# Altium integrated library TI_Logic_Gate.IntLib: 2017 symbols (part 13 of 56)
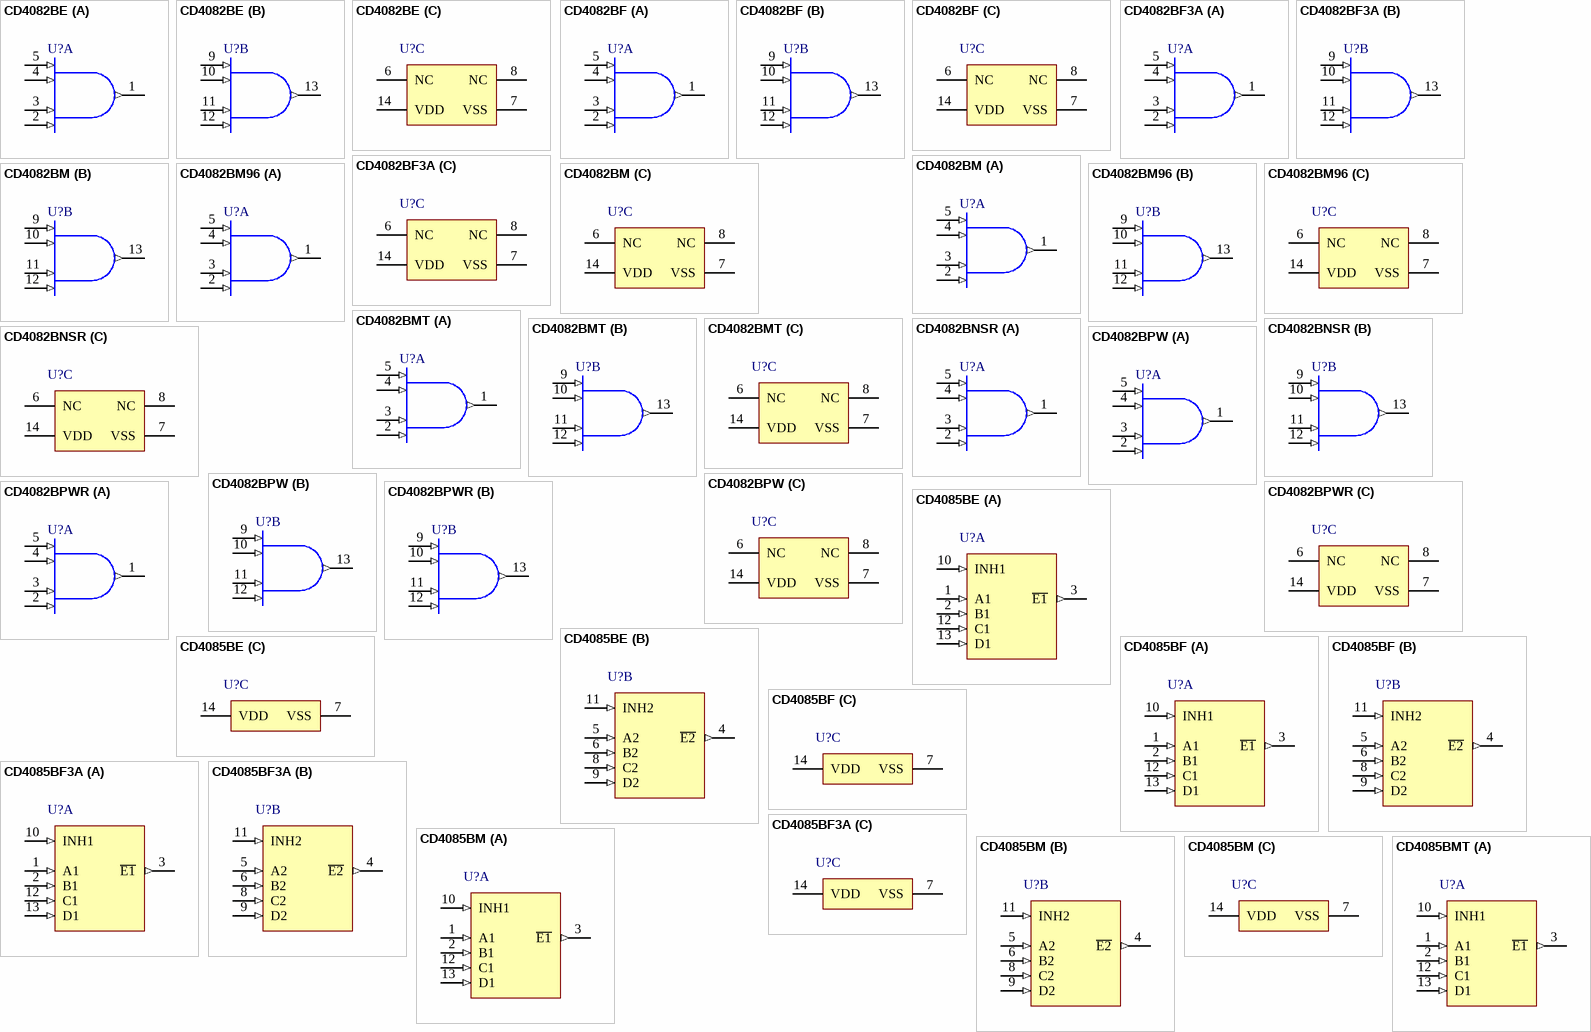
[diagram p237: symbols CD4082BE to CD4085BMT]

## CD4082BM
designator U?
CMOS Dual 4-Input AND Gate, D0014A, TUBE; Generic Part Number: CD4082B; Manufacturer: Texas Instruments; PartNumber: CD4082BM; VCC(Max)(V): 18; VCC(Min)(V): 3; ICC @ Nom Voltage(Max)(mA): 0.015; Bits(#): 2; F @ Nom Voltage(Max)(Mhz): 8; Rating: Catalog; Technology Family: CD4000; Voltage(Nom)(V): 10; Schmitt Trigger: No; Output Drive (IOL/IOH)(Max)(mA): -6.8/6.8; tpd @ Nom Voltage(Max)(ns): 120; DatasheetVersion: SCHS057C; PackageReference: D0014A; Supplier 1: Mouser; Supplier Part Number 1: 595-CD4082BM; Supplier 2: Digi-Key; Supplier Part Number 2: 296-32913-5-ND; Output Type: CMOS; Input Type: CMOS; Operating Temperature Range(C): -55 to 125; ComponentLink1Description: Manufacturer URL; ComponentLink1URL: http://www.ti.com/; ComponentLink2Description: Datasheet; ComponentLink2URL: http://www.ti.com/lit/ds/symlink/cd4082b.pdf
footprint D0014A_N (SOIC, 14-Leads, Body 8.75x4mm, Pitch 1.27mm, IPC Medium Density)
footprint D0014A_M (SOIC, 14-Leads, Body 8.75x4mm, Pitch 1.27mm, IPC Low Density)
footprint D0014A_L (SOIC, 14-Leads, Body 8.75x4mm, Pitch 1.27mm, IPC High Density)
part A pins: 1 J (out), 2 D (in), 3 C (in), 4 B (in), 5 A (in)
part B pins: 9 E (in), 10 F (in), 11 G (in), 12 H (in), 13 K (out)
part C pins: 6 NC, 7 VSS (power), 8 NC, 14 VDD (power)

## CD4082BM96
designator U?
CMOS Dual 4-Input AND Gate, D0014A, LARGE T&R; Generic Part Number: CD4082B; Manufacturer: Texas Instruments; PartNumber: CD4082BM96; VCC(Max)(V): 18; VCC(Min)(V): 3; ICC @ Nom Voltage(Max)(mA): 0.015; Bits(#): 2; F @ Nom Voltage(Max)(Mhz): 8; Rating: Catalog; Technology Family: CD4000; Voltage(Nom)(V): 10; Schmitt Trigger: No; Output Drive (IOL/IOH)(Max)(mA): -6.8/6.8; tpd @ Nom Voltage(Max)(ns): 120; DatasheetVersion: SCHS057C; PackageReference: D0014A; Supplier 1: Mouser; Supplier Part Number 1: 595-CD4082BM96; Supplier 2: Digi-Key; Supplier Part Number 2: 296-31523-2-ND; Supplier 3: Digi-Key; Supplier Part Number 3: 296-31523-1-ND; Supplier 4: Digi-Key; Supplier Part Number 4: 296-31523-6-ND; Output Type: CMOS; Input Type: CMOS; Operating Temperature Range(C): -55 to 125; ComponentLink1Description: Manufacturer URL; ComponentLink1URL: http://www.ti.com/; ComponentLink2Description: Datasheet; ComponentLink2URL: http://www.ti.com/lit/ds/symlink/cd4082b.pdf
footprint D0014A_N (SOIC, 14-Leads, Body 8.75x4mm, Pitch 1.27mm, IPC Medium Density)
footprint D0014A_M (SOIC, 14-Leads, Body 8.75x4mm, Pitch 1.27mm, IPC Low Density)
footprint D0014A_L (SOIC, 14-Leads, Body 8.75x4mm, Pitch 1.27mm, IPC High Density)
part A pins: 1 J (out), 2 D (in), 3 C (in), 4 B (in), 5 A (in)
part B pins: 9 E (in), 10 F (in), 11 G (in), 12 H (in), 13 K (out)
part C pins: 6 NC, 7 VSS (power), 8 NC, 14 VDD (power)

## CD4082BMT
designator U?
CMOS Dual 4-Input AND Gate, D0014A, SMALL T&R; Generic Part Number: CD4082B; Manufacturer: Texas Instruments; PartNumber: CD4082BMT; VCC(Max)(V): 18; VCC(Min)(V): 3; ICC @ Nom Voltage(Max)(mA): 0.015; Bits(#): 2; F @ Nom Voltage(Max)(Mhz): 8; Rating: Catalog; Technology Family: CD4000; Voltage(Nom)(V): 10; Schmitt Trigger: No; Output Drive (IOL/IOH)(Max)(mA): -6.8/6.8; tpd @ Nom Voltage(Max)(ns): 120; DatasheetVersion: SCHS057C; PackageReference: D0014A; Supplier 1: Mouser; Supplier Part Number 1: 595-CD4082BMT; Supplier 2: Digi-Key; Supplier Part Number 2: CD4082BMT-ND; Output Type: CMOS; Input Type: CMOS; Operating Temperature Range(C): -55 to 125; ComponentLink1Description: Manufacturer URL; ComponentLink1URL: http://www.ti.com/; ComponentLink2Description: Datasheet; ComponentLink2URL: http://www.ti.com/lit/ds/symlink/cd4082b.pdf
footprint D0014A_N (SOIC, 14-Leads, Body 8.75x4mm, Pitch 1.27mm, IPC Medium Density)
footprint D0014A_M (SOIC, 14-Leads, Body 8.75x4mm, Pitch 1.27mm, IPC Low Density)
footprint D0014A_L (SOIC, 14-Leads, Body 8.75x4mm, Pitch 1.27mm, IPC High Density)
part A pins: 1 J (out), 2 D (in), 3 C (in), 4 B (in), 5 A (in)
part B pins: 9 E (in), 10 F (in), 11 G (in), 12 H (in), 13 K (out)
part C pins: 6 NC, 7 VSS (power), 8 NC, 14 VDD (power)

## CD4082BNSR
designator U?
CMOS Dual 4-Input AND Gate, NS0014A, LARGE T&R; Generic Part Number: CD4082B; Manufacturer: Texas Instruments; PartNumber: CD4082BNSR; VCC(Max)(V): 18; VCC(Min)(V): 3; ICC @ Nom Voltage(Max)(mA): 0.015; Bits(#): 2; F @ Nom Voltage(Max)(Mhz): 8; Rating: Catalog; Technology Family: CD4000; Voltage(Nom)(V): 10; Schmitt Trigger: No; Output Drive (IOL/IOH)(Max)(mA): -6.8/6.8; tpd @ Nom Voltage(Max)(ns): 120; DatasheetVersion: SCHS057C; PackageReference: NS0014A; Supplier 1: Mouser; Supplier Part Number 1: 595-CD4082BNSR; Supplier 2: Digi-Key; Supplier Part Number 2: 296-31524-2-ND; Supplier 3: Digi-Key; Supplier Part Number 3: 296-31524-1-ND; Supplier 4: Digi-Key; Supplier Part Number 4: 296-31524-6-ND; Output Type: CMOS; Input Type: CMOS; Operating Temperature Range(C): -55 to 125; ComponentLink1Description: Manufacturer URL; ComponentLink1URL: http://www.ti.com/; ComponentLink2Description: Datasheet; ComponentLink2URL: http://www.ti.com/lit/ds/symlink/cd4082b.pdf
footprint NS0014A_N (SOIC,14-Leads,Body 10.5x5.6mm,Pitch 1.27mm,IPC Medium Density)
footprint NS0014A_M (SOIC,14-Leads,Body 10.5x5.6mm,Pitch 1.27mm,IPC Low Density)
footprint NS0014A_L (SOIC,14-Leads,Body 10.5x5.6mm,Pitch 0.4mm,IPC High Density)
part A pins: 1 J (out), 2 D (in), 3 C (in), 4 B (in), 5 A (in)
part B pins: 9 E (in), 10 F (in), 11 G (in), 12 H (in), 13 K (out)
part C pins: 6 NC, 7 VSS (power), 8 NC, 14 VDD (power)

## CD4082BPW
designator U?
CMOS Dual 4-Input AND Gate, PW0014A, TUBE; Generic Part Number: CD4082B; Manufacturer: Texas Instruments; PartNumber: CD4082BPW; VCC(Max)(V): 18; VCC(Min)(V): 3; ICC @ Nom Voltage(Max)(mA): 0.015; Bits(#): 2; F @ Nom Voltage(Max)(Mhz): 8; Rating: Catalog; Technology Family: CD4000; Voltage(Nom)(V): 10; Schmitt Trigger: No; Output Drive (IOL/IOH)(Max)(mA): -6.8/6.8; tpd @ Nom Voltage(Max)(ns): 120; DatasheetVersion: SCHS057C; PackageReference: PW0014A; Supplier 1: Mouser; Supplier Part Number 1: 595-CD4082BPW; Supplier 2: Digi-Key; Supplier Part Number 2: 296-32914-5-ND; Output Type: CMOS; Input Type: CMOS; Operating Temperature Range(C): -55 to 125; ComponentLink1Description: Manufacturer URL; ComponentLink1URL: http://www.ti.com/; ComponentLink2Description: Datasheet; ComponentLink2URL: http://www.ti.com/lit/ds/symlink/cd4082b.pdf
footprint PW0014A_N (SOP, 14-Leads, Body 5.1x4.5mm, Pitch 0.65mm, IPC Medium Density)
footprint PW0014A_M (SOP, 14-Leads, Body 5.1x4.5mm, Pitch 0.65mm, IPC Low Density)
footprint PW0014A_L (SOP, 14-Leads, Body 5.1x4.5mm, Pitch 0.65mm, IPC High Density)
part A pins: 1 J (out), 2 D (in), 3 C (in), 4 B (in), 5 A (in)
part B pins: 9 E (in), 10 F (in), 11 G (in), 12 H (in), 13 K (out)
part C pins: 6 NC, 7 VSS (power), 8 NC, 14 VDD (power)

## CD4082BPWR
designator U?
CMOS Dual 4-Input AND Gate, PW0014A, LARGE T&R; Generic Part Number: CD4082B; Manufacturer: Texas Instruments; PartNumber: CD4082BPWR; VCC(Max)(V): 18; VCC(Min)(V): 3; ICC @ Nom Voltage(Max)(mA): 0.015; Bits(#): 2; F @ Nom Voltage(Max)(Mhz): 8; Rating: Catalog; Technology Family: CD4000; Voltage(Nom)(V): 10; Schmitt Trigger: No; Output Drive (IOL/IOH)(Max)(mA): -6.8/6.8; tpd @ Nom Voltage(Max)(ns): 120; DatasheetVersion: SCHS057C; PackageReference: PW0014A; Supplier 1: Mouser; Supplier Part Number 1: 595-CD4082BPWR; Supplier 2: Digi-Key; Supplier Part Number 2: 296-31525-2-ND; Supplier 3: Digi-Key; Supplier Part Number 3: 296-31525-1-ND; Supplier 4: Digi-Key; Supplier Part Number 4: 296-31525-6-ND; Output Type: CMOS; Input Type: CMOS; Operating Temperature Range(C): -55 to 125; ComponentLink1Description: Manufacturer URL; ComponentLink1URL: http://www.ti.com/; ComponentLink2Description: Datasheet; ComponentLink2URL: http://www.ti.com/lit/ds/symlink/cd4082b.pdf
footprint PW0014A_N (SOP, 14-Leads, Body 5.1x4.5mm, Pitch 0.65mm, IPC Medium Density)
footprint PW0014A_M (SOP, 14-Leads, Body 5.1x4.5mm, Pitch 0.65mm, IPC Low Density)
footprint PW0014A_L (SOP, 14-Leads, Body 5.1x4.5mm, Pitch 0.65mm, IPC High Density)
part A pins: 1 J (out), 2 D (in), 3 C (in), 4 B (in), 5 A (in)
part B pins: 9 E (in), 10 F (in), 11 G (in), 12 H (in), 13 K (out)
part C pins: 6 NC, 7 VSS (power), 8 NC, 14 VDD (power)

## CD4085BE
designator U?
CMOS Dual 2-Wide 2-Input AND-OR-INVERT Gate, N0014A, TUBE; Generic Part Number: CD4085B; Manufacturer: Texas Instruments; PartNumber: CD4085BE; VCC(Max)(V): 18; VCC(Min)(V): 3; ICC @ Nom Voltage(Max)(mA): 0.06; Bits(#): 2; F @ Nom Voltage(Max)(Mhz): 8; Rating: Catalog; Technology Family: CD4000; Voltage(Nom)(V): 10; Schmitt Trigger: No; Output Drive (IOL/IOH)(Max)(mA): 1.5/-1.5; tpd @ Nom Voltage(Max)(ns): 250; DatasheetVersion: SCHS060C; PackageReference: N0014A; Supplier 1: Mouser; Supplier Part Number 1: 595-CD4085BE; Supplier 2: Digi-Key; Supplier Part Number 2: 296-3522-5-ND; Output Type: CMOS; Input Type: CMOS; Operating Temperature Range(C): -55 to 125; Code_JEDEC: MS-001; ComponentLink1Description: Manufacturer URL; ComponentLink1URL: http://www.ti.com/; ComponentLink2Description: Datasheet; ComponentLink2URL: http://www.ti.com/lit/ds/symlink/cd4085b.pdf; ComponentLink3Description: Package Specification; ComponentLink3URL: http://www.ti.com/lit/ml/mpdi002c/mpdi002c.pdf
footprint N0014A (DIP, 14-Leads, Body 19.7x6.6mm, Pitch 2.54mm)
part A pins: 1 A1 (in), 2 B1 (in), 3 ~{E1} (out), 10 INH1 (in), 12 C1 (in), 13 D1 (in)
part B pins: 4 ~{E2} (out), 5 A2 (in), 6 B2 (in), 8 C2 (in), 9 D2 (in), 11 INH2 (in)
part C pins: 7 VSS (power), 14 VDD (power)

## CD4085BF
designator U?
CMOS Dual 2-Wide 2-Input AND-OR-INVERT Gate, J0014A, TUBE; Generic Part Number: CD4085B-MIL; Manufacturer: Texas Instruments; PartNumber: CD4085BF; VCC(Max)(V): 18; VCC(Min)(V): 3; ICC @ Nom Voltage(Max)(mA): 0.06; Bits(#): 2; F @ Nom Voltage(Max)(Mhz): 8; Rating: Military; Technology Family: CD4000; Voltage(Nom)(V): 10; Schmitt Trigger: No; Output Drive (IOL/IOH)(Max)(mA): 1.5/-1.5; tpd @ Nom Voltage(Max)(ns): 250; DatasheetVersion: SCHS060C; PackageReference: J0014A; Output Type: CMOS; Input Type: CMOS; Operating Temperature Range(C): -55 to 125; ComponentLink1Description: Manufacturer URL; ComponentLink1URL: http://www.ti.com/; ComponentLink2Description: Datasheet; ComponentLink2URL: http://www.ti.com/lit/ds/symlink/cd4085b-mil.pdf; ComponentLink3Description: Package Specification; ComponentLink3URL: http://www.ti.com/lit/ml/mcer002d/mcer002d.pdf
footprint J0014A (DIP, 14-Leads, Body 19.95x7.2mm, Pitch 2.54mm)
part A pins: 1 A1 (in), 2 B1 (in), 3 ~{E1} (out), 10 INH1 (in), 12 C1 (in), 13 D1 (in)
part B pins: 4 ~{E2} (out), 5 A2 (in), 6 B2 (in), 8 C2 (in), 9 D2 (in), 11 INH2 (in)
part C pins: 7 VSS (power), 14 VDD (power)

## CD4085BF3A
designator U?
CMOS Dual 2-Wide 2-Input AND-OR-INVERT Gate, J0014A, TUBE; Generic Part Number: CD4085B-MIL; Manufacturer: Texas Instruments; PartNumber: CD4085BF3A; VCC(Max)(V): 18; VCC(Min)(V): 3; ICC @ Nom Voltage(Max)(mA): 0.06; Bits(#): 2; F @ Nom Voltage(Max)(Mhz): 8; Rating: Military; Technology Family: CD4000; Voltage(Nom)(V): 10; Schmitt Trigger: No; Output Drive (IOL/IOH)(Max)(mA): 1.5/-1.5; tpd @ Nom Voltage(Max)(ns): 250; DatasheetVersion: SCHS060C; PackageReference: J0014A; Output Type: CMOS; Input Type: CMOS; Operating Temperature Range(C): -55 to 125; ComponentLink1Description: Manufacturer URL; ComponentLink1URL: http://www.ti.com/; ComponentLink2Description: Datasheet; ComponentLink2URL: http://www.ti.com/lit/ds/symlink/cd4085b-mil.pdf; ComponentLink3Description: Package Specification; ComponentLink3URL: http://www.ti.com/lit/ml/mcer002d/mcer002d.pdf
footprint J0014A (DIP, 14-Leads, Body 19.95x7.2mm, Pitch 2.54mm)
part A pins: 1 A1 (in), 2 B1 (in), 3 ~{E1} (out), 10 INH1 (in), 12 C1 (in), 13 D1 (in)
part B pins: 4 ~{E2} (out), 5 A2 (in), 6 B2 (in), 8 C2 (in), 9 D2 (in), 11 INH2 (in)
part C pins: 7 VSS (power), 14 VDD (power)

## CD4085BM
designator U?
CMOS Dual 2-Wide 2-Input AND-OR-INVERT Gate, D0014A, TUBE; Generic Part Number: CD4085B; Manufacturer: Texas Instruments; PartNumber: CD4085BM; VCC(Max)(V): 18; VCC(Min)(V): 3; ICC @ Nom Voltage(Max)(mA): 0.06; Bits(#): 2; F @ Nom Voltage(Max)(Mhz): 8; Rating: Catalog; Technology Family: CD4000; Voltage(Nom)(V): 10; Schmitt Trigger: No; Output Drive (IOL/IOH)(Max)(mA): 1.5/-1.5; tpd @ Nom Voltage(Max)(ns): 250; DatasheetVersion: SCHS060C; PackageReference: D0014A; Supplier 1: Mouser; Supplier Part Number 1: 595-CD4085BM; Supplier 2: Digi-Key; Supplier Part Number 2: 296-32915-5-ND; Output Type: CMOS; Input Type: CMOS; Operating Temperature Range(C): -55 to 125; Code_JEDEC: MS-012; ComponentLink1Description: Manufacturer URL; ComponentLink1URL: http://www.ti.com/; ComponentLink2Description: Datasheet; ComponentLink2URL: http://www.ti.com/lit/ds/symlink/cd4085b.pdf; ComponentLink3Description: Package Specification; ComponentLink3URL: http://www.ti.com/lit/ml/mpds177g/mpds177g.pdf
footprint D0014A_N (SOIC, 14-Leads, Body 8.75x4mm, Pitch 1.27mm, IPC Medium Density)
footprint D0014A_M (SOIC, 14-Leads, Body 8.75x4mm, Pitch 1.27mm, IPC Low Density)
footprint D0014A_L (SOIC, 14-Leads, Body 8.75x4mm, Pitch 1.27mm, IPC High Density)
part A pins: 1 A1 (in), 2 B1 (in), 3 ~{E1} (out), 10 INH1 (in), 12 C1 (in), 13 D1 (in)
part B pins: 4 ~{E2} (out), 5 A2 (in), 6 B2 (in), 8 C2 (in), 9 D2 (in), 11 INH2 (in)
part C pins: 7 VSS (power), 14 VDD (power)

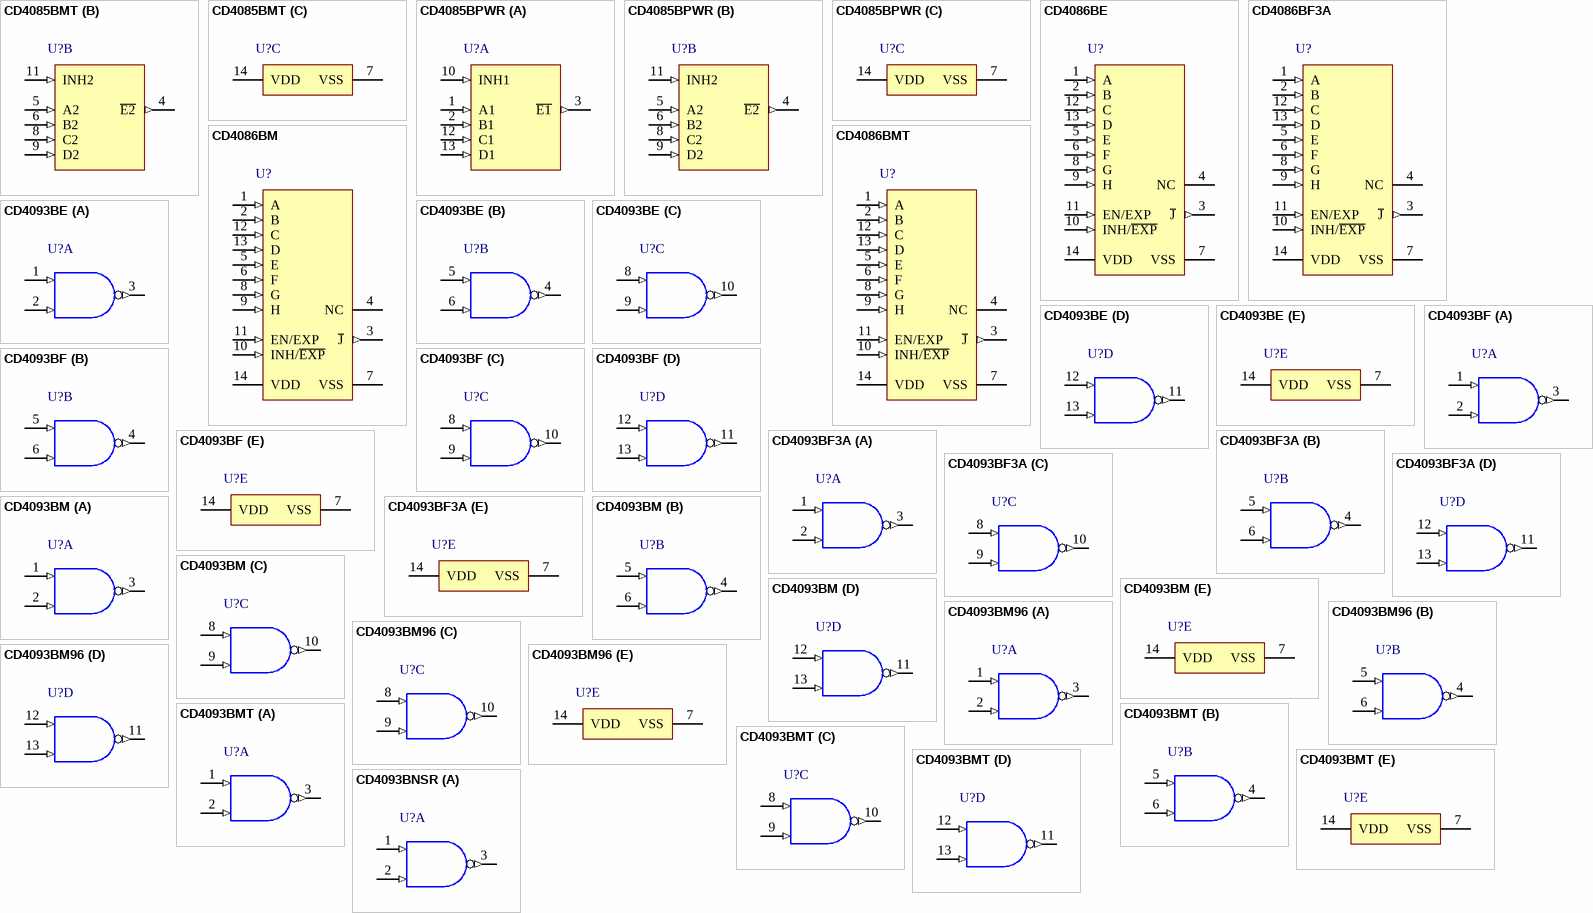
[diagram p48: symbols CD4085BMT to CD4093BNSR]

## CD4085BMT
designator U?
CMOS Dual 2-Wide 2-Input AND-OR-INVERT Gate, D0014A, SMALL T&R; Generic Part Number: CD4085B; Manufacturer: Texas Instruments; PartNumber: CD4085BMT; VCC(Max)(V): 18; VCC(Min)(V): 3; ICC @ Nom Voltage(Max)(mA): 0.06; Bits(#): 2; F @ Nom Voltage(Max)(Mhz): 8; Rating: Catalog; Technology Family: CD4000; Voltage(Nom)(V): 10; Schmitt Trigger: No; Output Drive (IOL/IOH)(Max)(mA): 1.5/-1.5; tpd @ Nom Voltage(Max)(ns): 250; DatasheetVersion: SCHS060C; PackageReference: D0014A; Supplier 1: Mouser; Supplier Part Number 1: 595-CD4085BMT; Supplier 2: Digi-Key; Supplier Part Number 2: CD4085BMT-ND; Output Type: CMOS; Input Type: CMOS; Operating Temperature Range(C): -55 to 125; Code_JEDEC: MS-012; ComponentLink1Description: Manufacturer URL; ComponentLink1URL: http://www.ti.com/; ComponentLink2Description: Datasheet; ComponentLink2URL: http://www.ti.com/lit/ds/symlink/cd4085b.pdf; ComponentLink3Description: Package Specification; ComponentLink3URL: http://www.ti.com/lit/ml/mpds177g/mpds177g.pdf
footprint D0014A_N (SOIC, 14-Leads, Body 8.75x4mm, Pitch 1.27mm, IPC Medium Density)
footprint D0014A_M (SOIC, 14-Leads, Body 8.75x4mm, Pitch 1.27mm, IPC Low Density)
footprint D0014A_L (SOIC, 14-Leads, Body 8.75x4mm, Pitch 1.27mm, IPC High Density)
part A pins: 1 A1 (in), 2 B1 (in), 3 ~{E1} (out), 10 INH1 (in), 12 C1 (in), 13 D1 (in)
part B pins: 4 ~{E2} (out), 5 A2 (in), 6 B2 (in), 8 C2 (in), 9 D2 (in), 11 INH2 (in)
part C pins: 7 VSS (power), 14 VDD (power)

## CD4085BPWR
designator U?
CMOS Dual 2-Wide 2-Input AND-OR-INVERT Gate, PW0014A, LARGE T&R; Generic Part Number: CD4085B; Manufacturer: Texas Instruments; PartNumber: CD4085BPWR; VCC(Max)(V): 18; VCC(Min)(V): 3; ICC @ Nom Voltage(Max)(mA): 0.06; Bits(#): 2; F @ Nom Voltage(Max)(Mhz): 8; Rating: Catalog; Technology Family: CD4000; Voltage(Nom)(V): 10; Schmitt Trigger: No; Output Drive (IOL/IOH)(Max)(mA): 1.5/-1.5; tpd @ Nom Voltage(Max)(ns): 250; DatasheetVersion: SCHS060C; PackageReference: PW0014A; Supplier 1: Mouser; Supplier Part Number 1: 595-CD4085BPWR; Supplier 2: Digi-Key; Supplier Part Number 2: 296-14143-2-ND; Supplier 3: Digi-Key; Supplier Part Number 3: 296-14143-1-ND; Supplier 4: Digi-Key; Supplier Part Number 4: 296-14143-6-ND; Output Type: CMOS; Input Type: CMOS; Operating Temperature Range(C): -55 to 125; Code_JEDEC: MO-153; ComponentLink1Description: Manufacturer URL; ComponentLink1URL: http://www.ti.com/; ComponentLink2Description: Datasheet; ComponentLink2URL: http://www.ti.com/lit/ds/symlink/cd4085b.pdf; ComponentLink3Description: Package Specification; ComponentLink3URL: http://www.ti.com/lit/ml/mpds360/mpds360.pdf
footprint PW0014A_N (SOP, 14-Leads, Body 5.1x4.5mm, Pitch 0.65mm, IPC Medium Density)
footprint PW0014A_M (SOP, 14-Leads, Body 5.1x4.5mm, Pitch 0.65mm, IPC Low Density)
footprint PW0014A_L (SOP, 14-Leads, Body 5.1x4.5mm, Pitch 0.65mm, IPC High Density)
part A pins: 1 A1 (in), 2 B1 (in), 3 ~{E1} (out), 10 INH1 (in), 12 C1 (in), 13 D1 (in)
part B pins: 4 ~{E2} (out), 5 A2 (in), 6 B2 (in), 8 C2 (in), 9 D2 (in), 11 INH2 (in)
part C pins: 7 VSS (power), 14 VDD (power)

## CD4086BE
designator U?
CMOS Expandable 4-Wide 2-Input AND-OR-INVERT Gate, N0014A, TUBE; Generic Part Number: CD4086B; Manufacturer: Texas Instruments; PartNumber: CD4086BE; VCC(Max)(V): 18; VCC(Min)(V): 3; ICC @ Nom Voltage(Max)(mA): 0.06; Bits(#): 4; F @ Nom Voltage(Max)(Mhz): 8; Rating: Catalog; Technology Family: CD4000; Voltage(Nom)(V): 10; Schmitt Trigger: No; Output Drive (IOL/IOH)(Max)(mA): 1.5/-1.5; tpd @ Nom Voltage(Max)(ns): 250; DatasheetVersion: SCHS061C; PackageReference: N0014A; Supplier 1: Mouser; Supplier Part Number 1: 595-CD4086BE; Supplier 2: Digi-Key; Supplier Part Number 2: 296-14281-5-ND; Output Type: CMOS; Input Type: CMOS; Operating Temperature Range(C): -55 to 125; Code_JEDEC: MS-001; ComponentLink1Description: Manufacturer URL; ComponentLink1URL: http://www.ti.com/; ComponentLink2Description: Datasheet; ComponentLink2URL: http://www.ti.com/lit/ds/symlink/cd4086b.pdf; ComponentLink3Description: Package Specification; ComponentLink3URL: http://www.ti.com/lit/ml/mpdi002c/mpdi002c.pdf
footprint N0014A (DIP, 14-Leads, Body 19.7x6.6mm, Pitch 2.54mm)
pins: 1 A (in), 2 B (in), 3 ~{J} (out), 4 NC, 5 E (in), 6 F (in), 7 VSS (power), 8 G (in), 9 H (in), 10 INH/~{EXP} (in), 11 EN/EXP (in), 12 C (in), 13 D (in), 14 VDD (power)

## CD4086BF3A
designator U?
CMOS Expandable 4-Wide 2-Input AND-OR-INVERT Gate, J0014A, TUBE; Generic Part Number: CD4086B-MIL; Manufacturer: Texas Instruments; PartNumber: CD4086BF3A; VCC(Max)(V): 18; VCC(Min)(V): 3; ICC @ Nom Voltage(Max)(mA): 0.06; Bits(#): 4; F @ Nom Voltage(Max)(Mhz): 8; Rating: Military; Technology Family: CD4000; Voltage(Nom)(V): 10; Schmitt Trigger: No; Output Drive (IOL/IOH)(Max)(mA): 1.5/-1.5; tpd @ Nom Voltage(Max)(ns): 250; DatasheetVersion: SCHS061C; PackageReference: J0014A; Output Type: CMOS; Input Type: CMOS; Operating Temperature Range(C): -55 to 125; ComponentLink1Description: Manufacturer URL; ComponentLink1URL: http://www.ti.com/; ComponentLink2Description: Datasheet; ComponentLink2URL: http://www.ti.com/lit/ds/symlink/cd4086b-mil.pdf; ComponentLink3Description: Package Specification; ComponentLink3URL: http://www.ti.com/lit/ml/mcer002d/mcer002d.pdf
footprint J0014A (DIP, 14-Leads, Body 19.95x7.2mm, Pitch 2.54mm)
pins: 1 A (in), 2 B (in), 3 ~{J} (out), 4 NC, 5 E (in), 6 F (in), 7 VSS (power), 8 G (in), 9 H (in), 10 INH/~{EXP} (in), 11 EN/EXP (in), 12 C (in), 13 D (in), 14 VDD (power)

## CD4086BM
designator U?
CMOS Expandable 4-Wide 2-Input AND-OR-INVERT Gate, D0014A, TUBE; Generic Part Number: CD4086B; Manufacturer: Texas Instruments; PartNumber: CD4086BM; VCC(Max)(V): 18; VCC(Min)(V): 3; ICC @ Nom Voltage(Max)(mA): 0.06; Bits(#): 4; F @ Nom Voltage(Max)(Mhz): 8; Rating: Catalog; Technology Family: CD4000; Voltage(Nom)(V): 10; Schmitt Trigger: No; Output Drive (IOL/IOH)(Max)(mA): 1.5/-1.5; tpd @ Nom Voltage(Max)(ns): 250; DatasheetVersion: SCHS061C; PackageReference: D0014A; Supplier 1: Mouser; Supplier Part Number 1: 595-CD4086BM; Supplier 2: Digi-Key; Supplier Part Number 2: CD4086BM-ND; Output Type: CMOS; Input Type: CMOS; Operating Temperature Range(C): -55 to 125; Code_JEDEC: MS-012; ComponentLink1Description: Manufacturer URL; ComponentLink1URL: http://www.ti.com/; ComponentLink2Description: Datasheet; ComponentLink2URL: http://www.ti.com/lit/ds/symlink/cd4086b.pdf; ComponentLink3Description: Package Specification; ComponentLink3URL: http://www.ti.com/lit/ml/mpds177g/mpds177g.pdf
footprint D0014A_N (SOIC, 14-Leads, Body 8.75x4mm, Pitch 1.27mm, IPC Medium Density)
footprint D0014A_M (SOIC, 14-Leads, Body 8.75x4mm, Pitch 1.27mm, IPC Low Density)
footprint D0014A_L (SOIC, 14-Leads, Body 8.75x4mm, Pitch 1.27mm, IPC High Density)
pins: 1 A (in), 2 B (in), 3 ~{J} (out), 4 NC, 5 E (in), 6 F (in), 7 VSS (power), 8 G (in), 9 H (in), 10 INH/~{EXP} (in), 11 EN/EXP (in), 12 C (in), 13 D (in), 14 VDD (power)

## CD4086BMT
designator U?
CMOS Expandable 4-Wide 2-Input AND-OR-INVERT Gate, D0014A, SMALL T&R; Generic Part Number: CD4086B; Manufacturer: Texas Instruments; PartNumber: CD4086BMT; VCC(Max)(V): 18; VCC(Min)(V): 3; ICC @ Nom Voltage(Max)(mA): 0.06; Bits(#): 4; F @ Nom Voltage(Max)(Mhz): 8; Rating: Catalog; Technology Family: CD4000; Voltage(Nom)(V): 10; Schmitt Trigger: No; Output Drive (IOL/IOH)(Max)(mA): 1.5/-1.5; tpd @ Nom Voltage(Max)(ns): 250; DatasheetVersion: SCHS061C; PackageReference: D0014A; Supplier 1: Mouser; Supplier Part Number 1: 595-CD4086BMT; Supplier 2: Digi-Key; Supplier Part Number 2: 296-28571-2-ND; Supplier 3: Digi-Key; Supplier Part Number 3: 296-28571-1-ND; Supplier 4: Digi-Key; Supplier Part Number 4: 296-28571-6-ND; Output Type: CMOS; Input Type: CMOS; Operating Temperature Range(C): -55 to 125; Code_JEDEC: MS-012; ComponentLink1Description: Manufacturer URL; ComponentLink1URL: http://www.ti.com/; ComponentLink2Description: Datasheet; ComponentLink2URL: http://www.ti.com/lit/ds/symlink/cd4086b.pdf; ComponentLink3Description: Package Specification; ComponentLink3URL: http://www.ti.com/lit/ml/mpds177g/mpds177g.pdf
footprint D0014A_N (SOIC, 14-Leads, Body 8.75x4mm, Pitch 1.27mm, IPC Medium Density)
footprint D0014A_M (SOIC, 14-Leads, Body 8.75x4mm, Pitch 1.27mm, IPC Low Density)
footprint D0014A_L (SOIC, 14-Leads, Body 8.75x4mm, Pitch 1.27mm, IPC High Density)
pins: 1 A (in), 2 B (in), 3 ~{J} (out), 4 NC, 5 E (in), 6 F (in), 7 VSS (power), 8 G (in), 9 H (in), 10 INH/~{EXP} (in), 11 EN/EXP (in), 12 C (in), 13 D (in), 14 VDD (power)

## CD4093BE
designator U?
CMOS Quad 2-Input NAND Schmitt Triggers, N0014A, TUBE; Generic Part Number: CD4093B; Manufacturer: Texas Instruments; PartNumber: CD4093BE; VCC(Max)(V): 18; VCC(Min)(V): 3; ICC @ Nom Voltage(Max)(mA): 0.06; Bits(#): 4; F @ Nom Voltage(Max)(Mhz): 8; Rating: Catalog; Technology Family: CD4000; Voltage(Nom)(V): 10; Schmitt Trigger: Yes; Output Drive (IOL/IOH)(Max)(mA): 1.5/-1.5; DatasheetVersion: SCHS115D; PackageReference: N0014A; Supplier 1: Mouser; Supplier Part Number 1: 595-CD4093BE; Supplier 2: Digi-Key; Supplier Part Number 2: 296-2068-5-ND; Output Type: CMOS; Input Type: CMOS; Operating Temperature Range(C): -55 to 125; Code_JEDEC: MS-001; ComponentLink1Description: Manufacturer URL; ComponentLink1URL: http://www.ti.com/; ComponentLink2Description: Datasheet; ComponentLink2URL: http://www.ti.com/lit/ds/symlink/cd4093b.pdf; ComponentLink3Description: Package Specification; ComponentLink3URL: http://www.ti.com/lit/ml/mpdi002c/mpdi002c.pdf
footprint N0014A (DIP, 14-Leads, Body 19.7x6.6mm, Pitch 2.54mm)
part A pins: 1 A (in), 2 B (in), 3 J (out)
part B pins: 4 K (out), 5 C (in), 6 D (in)
part C pins: 8 E (in), 9 F (in), 10 L (out)
part D pins: 11 M (out), 12 G (in), 13 H (in)
part E pins: 7 VSS (power), 14 VDD (power)

## CD4093BF
designator U?
CMOS Quad 2-Input NAND Schmitt Triggers, J0014A, TUBE; Generic Part Number: CD4093B-MIL; Manufacturer: Texas Instruments; PartNumber: CD4093BF; VCC(Max)(V): 18; VCC(Min)(V): 3; ICC @ Nom Voltage(Max)(mA): 0.06; Bits(#): 4; F @ Nom Voltage(Max)(Mhz): 8; Rating: Military; Technology Family: CD4000; Voltage(Nom)(V): 10; Schmitt Trigger: Yes; Output Drive (IOL/IOH)(Max)(mA): 1.5/-1.5; DatasheetVersion: SCHS115D; PackageReference: J0014A; Output Type: CMOS; Input Type: CMOS; Operating Temperature Range(C): -55 to 125; ComponentLink1Description: Manufacturer URL; ComponentLink1URL: http://www.ti.com/; ComponentLink2Description: Datasheet; ComponentLink2URL: http://www.ti.com/lit/ds/symlink/cd4093b-mil.pdf; ComponentLink3Description: Package Specification; ComponentLink3URL: http://www.ti.com/lit/ml/mcer002d/mcer002d.pdf
footprint J0014A (DIP, 14-Leads, Body 19.95x7.2mm, Pitch 2.54mm)
part A pins: 1 A (in), 2 B (in), 3 J (out)
part B pins: 4 K (out), 5 C (in), 6 D (in)
part C pins: 8 E (in), 9 F (in), 10 L (out)
part D pins: 11 M (out), 12 G (in), 13 H (in)
part E pins: 7 VSS (power), 14 VDD (power)

## CD4093BF3A
designator U?
CMOS Quad 2-Input NAND Schmitt Triggers, J0014A, TUBE; Generic Part Number: CD4093B-MIL; Manufacturer: Texas Instruments; PartNumber: CD4093BF3A; VCC(Max)(V): 18; VCC(Min)(V): 3; ICC @ Nom Voltage(Max)(mA): 0.06; Bits(#): 4; F @ Nom Voltage(Max)(Mhz): 8; Rating: Military; Technology Family: CD4000; Voltage(Nom)(V): 10; Schmitt Trigger: Yes; Output Drive (IOL/IOH)(Max)(mA): 1.5/-1.5; DatasheetVersion: SCHS115D; PackageReference: J0014A; Output Type: CMOS; Input Type: CMOS; Operating Temperature Range(C): -55 to 125; ComponentLink1Description: Manufacturer URL; ComponentLink1URL: http://www.ti.com/; ComponentLink2Description: Datasheet; ComponentLink2URL: http://www.ti.com/lit/ds/symlink/cd4093b-mil.pdf; ComponentLink3Description: Package Specification; ComponentLink3URL: http://www.ti.com/lit/ml/mcer002d/mcer002d.pdf
footprint J0014A (DIP, 14-Leads, Body 19.95x7.2mm, Pitch 2.54mm)
part A pins: 1 A (in), 2 B (in), 3 J (out)
part B pins: 4 K (out), 5 C (in), 6 D (in)
part C pins: 8 E (in), 9 F (in), 10 L (out)
part D pins: 11 M (out), 12 G (in), 13 H (in)
part E pins: 7 VSS (power), 14 VDD (power)

## CD4093BM
designator U?
CMOS Quad 2-Input NAND Schmitt Triggers, D0014A, TUBE; Generic Part Number: CD4093B; Manufacturer: Texas Instruments; PartNumber: CD4093BM; VCC(Max)(V): 18; VCC(Min)(V): 3; ICC @ Nom Voltage(Max)(mA): 0.06; Bits(#): 4; F @ Nom Voltage(Max)(Mhz): 8; Rating: Catalog; Technology Family: CD4000; Voltage(Nom)(V): 10; Schmitt Trigger: Yes; Output Drive (IOL/IOH)(Max)(mA): 1.5/-1.5; DatasheetVersion: SCHS115D; PackageReference: D0014A; Supplier 1: Mouser; Supplier Part Number 1: 595-CD4093BM; Supplier 2: Digi-Key; Supplier Part Number 2: 296-3524-5-ND; Output Type: CMOS; Input Type: CMOS; Operating Temperature Range(C): -55 to 125; Code_JEDEC: MS-012; ComponentLink1Description: Manufacturer URL; ComponentLink1URL: http://www.ti.com/; ComponentLink2Description: Datasheet; ComponentLink2URL: http://www.ti.com/lit/ds/symlink/cd4093b.pdf; ComponentLink3Description: Package Specification; ComponentLink3URL: http://www.ti.com/lit/ml/mpds177g/mpds177g.pdf
footprint D0014A_N (SOIC, 14-Leads, Body 8.75x4mm, Pitch 1.27mm, IPC Medium Density)
footprint D0014A_M (SOIC, 14-Leads, Body 8.75x4mm, Pitch 1.27mm, IPC Low Density)
footprint D0014A_L (SOIC, 14-Leads, Body 8.75x4mm, Pitch 1.27mm, IPC High Density)
part A pins: 1 A (in), 2 B (in), 3 J (out)
part B pins: 4 K (out), 5 C (in), 6 D (in)
part C pins: 8 E (in), 9 F (in), 10 L (out)
part D pins: 11 M (out), 12 G (in), 13 H (in)
part E pins: 7 VSS (power), 14 VDD (power)

## CD4093BM96
designator U?
CMOS Quad 2-Input NAND Schmitt Triggers, D0014A, LARGE T&R; Generic Part Number: CD4093B; Manufacturer: Texas Instruments; PartNumber: CD4093BM96; VCC(Max)(V): 18; VCC(Min)(V): 3; ICC @ Nom Voltage(Max)(mA): 0.06; Bits(#): 4; F @ Nom Voltage(Max)(Mhz): 8; Rating: Catalog; Technology Family: CD4000; Voltage(Nom)(V): 10; Schmitt Trigger: Yes; Output Drive (IOL/IOH)(Max)(mA): 1.5/-1.5; DatasheetVersion: SCHS115D; PackageReference: D0014A; Supplier 1: Mouser; Supplier Part Number 1: 595-CD4093BM96; Supplier 2: Digi-Key; Supplier Part Number 2: 296-25956-2-ND; Supplier 3: Digi-Key; Supplier Part Number 3: 296-25956-1-ND; Supplier 4: Digi-Key; Supplier Part Number 4: 296-25956-6-ND; Output Type: CMOS; Input Type: CMOS; Operating Temperature Range(C): -55 to 125; Code_JEDEC: MS-012; ComponentLink1Description: Manufacturer URL; ComponentLink1URL: http://www.ti.com/; ComponentLink2Description: Datasheet; ComponentLink2URL: http://www.ti.com/lit/ds/symlink/cd4093b.pdf; ComponentLink3Description: Package Specification; ComponentLink3URL: http://www.ti.com/lit/ml/mpds177g/mpds177g.pdf
footprint D0014A_N (SOIC, 14-Leads, Body 8.75x4mm, Pitch 1.27mm, IPC Medium Density)
footprint D0014A_M (SOIC, 14-Leads, Body 8.75x4mm, Pitch 1.27mm, IPC Low Density)
footprint D0014A_L (SOIC, 14-Leads, Body 8.75x4mm, Pitch 1.27mm, IPC High Density)
part A pins: 1 A (in), 2 B (in), 3 J (out)
part B pins: 4 K (out), 5 C (in), 6 D (in)
part C pins: 8 E (in), 9 F (in), 10 L (out)
part D pins: 11 M (out), 12 G (in), 13 H (in)
part E pins: 7 VSS (power), 14 VDD (power)

## CD4093BMT
designator U?
CMOS Quad 2-Input NAND Schmitt Triggers, D0014A, SMALL T&R; Generic Part Number: CD4093B; Manufacturer: Texas Instruments; PartNumber: CD4093BMT; VCC(Max)(V): 18; VCC(Min)(V): 3; ICC @ Nom Voltage(Max)(mA): 0.06; Bits(#): 4; F @ Nom Voltage(Max)(Mhz): 8; Rating: Catalog; Technology Family: CD4000; Voltage(Nom)(V): 10; Schmitt Trigger: Yes; Output Drive (IOL/IOH)(Max)(mA): 1.5/-1.5; DatasheetVersion: SCHS115D; PackageReference: D0014A; Supplier 1: Mouser; Supplier Part Number 1: 595-CD4093BMT; Supplier 2: Digi-Key; Supplier Part Number 2: 296-28572-2-ND; Supplier 3: Digi-Key; Supplier Part Number 3: 296-28572-1-ND; Supplier 4: Digi-Key; Supplier Part Number 4: 296-28572-6-ND; Output Type: CMOS; Input Type: CMOS; Operating Temperature Range(C): -55 to 125; Code_JEDEC: MS-012; ComponentLink1Description: Manufacturer URL; ComponentLink1URL: http://www.ti.com/; ComponentLink2Description: Datasheet; ComponentLink2URL: http://www.ti.com/lit/ds/symlink/cd4093b.pdf; ComponentLink3Description: Package Specification; ComponentLink3URL: http://www.ti.com/lit/ml/mpds177g/mpds177g.pdf
footprint D0014A_N (SOIC, 14-Leads, Body 8.75x4mm, Pitch 1.27mm, IPC Medium Density)
footprint D0014A_M (SOIC, 14-Leads, Body 8.75x4mm, Pitch 1.27mm, IPC Low Density)
footprint D0014A_L (SOIC, 14-Leads, Body 8.75x4mm, Pitch 1.27mm, IPC High Density)
part A pins: 1 A (in), 2 B (in), 3 J (out)
part B pins: 4 K (out), 5 C (in), 6 D (in)
part C pins: 8 E (in), 9 F (in), 10 L (out)
part D pins: 11 M (out), 12 G (in), 13 H (in)
part E pins: 7 VSS (power), 14 VDD (power)

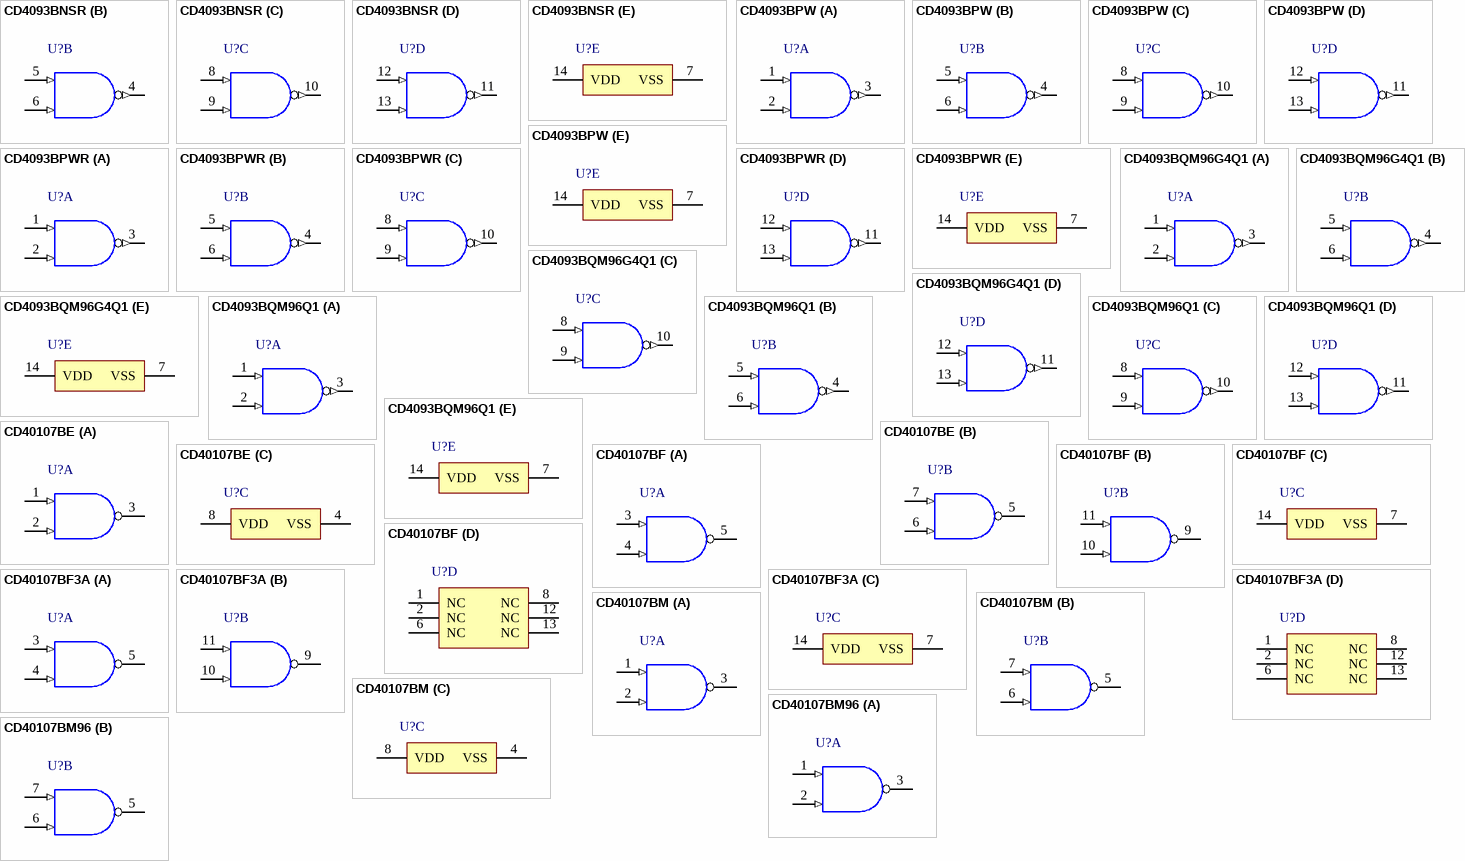
[diagram p49: symbols CD4093BNSR to CD40107BM96]

## CD4093BNSR
designator U?
CMOS Quad 2-Input NAND Schmitt Triggers, NS0014A, LARGE T&R; Generic Part Number: CD4093B; Manufacturer: Texas Instruments; PartNumber: CD4093BNSR; VCC(Max)(V): 18; VCC(Min)(V): 3; ICC @ Nom Voltage(Max)(mA): 0.06; Bits(#): 4; F @ Nom Voltage(Max)(Mhz): 8; Rating: Catalog; Technology Family: CD4000; Voltage(Nom)(V): 10; Schmitt Trigger: Yes; Output Drive (IOL/IOH)(Max)(mA): 1.5/-1.5; DatasheetVersion: SCHS115D; PackageReference: NS0014A; Supplier 1: Mouser; Supplier Part Number 1: 595-CD4093BNSR; Supplier 2: Digi-Key; Supplier Part Number 2: 296-14145-2-ND; Supplier 3: Digi-Key; Supplier Part Number 3: 296-14145-1-ND; Supplier 4: Digi-Key; Supplier Part Number 4: 296-14145-6-ND; Output Type: CMOS; Input Type: CMOS; Operating Temperature Range(C): -55 to 125; ComponentLink1Description: Manufacturer URL; ComponentLink1URL: http://www.ti.com/; ComponentLink2Description: Datasheet; ComponentLink2URL: http://www.ti.com/lit/ds/symlink/cd4093b.pdf; ComponentLink3Description: Package Specification; ComponentLink3URL: http://www.ti.com/lit/ml/msop002a/msop002a.pdf
footprint NS0014A_N (SOIC,14-Leads,Body 10.5x5.6mm,Pitch 1.27mm,IPC Medium Density)
footprint NS0014A_M (SOIC,14-Leads,Body 10.5x5.6mm,Pitch 1.27mm,IPC Low Density)
footprint NS0014A_L (SOIC,14-Leads,Body 10.5x5.6mm,Pitch 0.4mm,IPC High Density)
part A pins: 1 A (in), 2 B (in), 3 J (out)
part B pins: 4 K (out), 5 C (in), 6 D (in)
part C pins: 8 E (in), 9 F (in), 10 L (out)
part D pins: 11 M (out), 12 G (in), 13 H (in)
part E pins: 7 VSS (power), 14 VDD (power)

## CD4093BPW
designator U?
CMOS Quad 2-Input NAND Schmitt Triggers, PW0014A, TUBE; Generic Part Number: CD4093B; Manufacturer: Texas Instruments; PartNumber: CD4093BPW; VCC(Max)(V): 18; VCC(Min)(V): 3; ICC @ Nom Voltage(Max)(mA): 0.06; Bits(#): 4; F @ Nom Voltage(Max)(Mhz): 8; Rating: Catalog; Technology Family: CD4000; Voltage(Nom)(V): 10; Schmitt Trigger: Yes; Output Drive (IOL/IOH)(Max)(mA): 1.5/-1.5; DatasheetVersion: SCHS115D; PackageReference: PW0014A; Supplier 1: Mouser; Supplier Part Number 1: 595-CD4093BPW; Supplier 2: Digi-Key; Supplier Part Number 2: 296-14146-5-ND; Output Type: CMOS; Input Type: CMOS; Operating Temperature Range(C): -55 to 125; Code_JEDEC: MO-153; ComponentLink1Description: Manufacturer URL; ComponentLink1URL: http://www.ti.com/; ComponentLink2Description: Datasheet; ComponentLink2URL: http://www.ti.com/lit/ds/symlink/cd4093b.pdf; ComponentLink3Description: Package Specification; ComponentLink3URL: http://www.ti.com/lit/ml/mpds360/mpds360.pdf
footprint PW0014A_N (SOP, 14-Leads, Body 5.1x4.5mm, Pitch 0.65mm, IPC Medium Density)
footprint PW0014A_M (SOP, 14-Leads, Body 5.1x4.5mm, Pitch 0.65mm, IPC Low Density)
footprint PW0014A_L (SOP, 14-Leads, Body 5.1x4.5mm, Pitch 0.65mm, IPC High Density)
part A pins: 1 A (in), 2 B (in), 3 J (out)
part B pins: 4 K (out), 5 C (in), 6 D (in)
part C pins: 8 E (in), 9 F (in), 10 L (out)
part D pins: 11 M (out), 12 G (in), 13 H (in)
part E pins: 7 VSS (power), 14 VDD (power)

## CD4093BPWR
designator U?
CMOS Quad 2-Input NAND Schmitt Triggers, PW0014A, LARGE T&R; Generic Part Number: CD4093B; Manufacturer: Texas Instruments; PartNumber: CD4093BPWR; VCC(Max)(V): 18; VCC(Min)(V): 3; ICC @ Nom Voltage(Max)(mA): 0.06; Bits(#): 4; F @ Nom Voltage(Max)(Mhz): 8; Rating: Catalog; Technology Family: CD4000; Voltage(Nom)(V): 10; Schmitt Trigger: Yes; Output Drive (IOL/IOH)(Max)(mA): 1.5/-1.5; DatasheetVersion: SCHS115D; PackageReference: PW0014A; Supplier 1: Mouser; Supplier Part Number 1: 595-CD4093BPWR; Supplier 2: Digi-Key; Supplier Part Number 2: 296-13873-2-ND; Supplier 3: Digi-Key; Supplier Part Number 3: 296-13873-1-ND; Supplier 4: Digi-Key; Supplier Part Number 4: 296-13873-6-ND; Output Type: CMOS; Input Type: CMOS; Operating Temperature Range(C): -55 to 125; Code_JEDEC: MO-153; ComponentLink1Description: Manufacturer URL; ComponentLink1URL: http://www.ti.com/; ComponentLink2Description: Datasheet; ComponentLink2URL: http://www.ti.com/lit/ds/symlink/cd4093b.pdf; ComponentLink3Description: Package Specification; ComponentLink3URL: http://www.ti.com/lit/ml/mpds360/mpds360.pdf
footprint PW0014A_N (SOP, 14-Leads, Body 5.1x4.5mm, Pitch 0.65mm, IPC Medium Density)
footprint PW0014A_M (SOP, 14-Leads, Body 5.1x4.5mm, Pitch 0.65mm, IPC Low Density)
footprint PW0014A_L (SOP, 14-Leads, Body 5.1x4.5mm, Pitch 0.65mm, IPC High Density)
part A pins: 1 A (in), 2 B (in), 3 J (out)
part B pins: 4 K (out), 5 C (in), 6 D (in)
part C pins: 8 E (in), 9 F (in), 10 L (out)
part D pins: 11 M (out), 12 G (in), 13 H (in)
part E pins: 7 VSS (power), 14 VDD (power)

## CD4093BQM96G4Q1
designator U?
Automotive Catalog CMOS Quad 2-Input NAND Schmitt Triggers, D0014A, LARGE T&R; Generic Part Number: CD4093B-Q1; Manufacturer: Texas Instruments; PartNumber: CD4093BQM96G4Q1; VCC(Max)(V): 18; VCC(Min)(V): 3; ICC @ Nom Voltage(Max)(mA): 0.06; Bits(#): 4; F @ Nom Voltage(Max)(Mhz): 8; Technology Family: CD4000; Voltage(Nom)(V): 10; Schmitt Trigger: Yes; Output Drive (IOL/IOH)(Max)(mA): 1.5/-1.5; tpd @ Nom Voltage(Max)(ns): 380; DatasheetVersion: SCLS608A; PackageReference: D0014A; Supplier 1: Mouser; Supplier Part Number 1: 595-CD4093BQM96G4Q1; Supplier 2: Digi-Key; Supplier Part Number 2: 296-24699-2-ND; Supplier 3: Digi-Key; Supplier Part Number 3: 296-24699-1-ND; Supplier 4: Digi-Key; Supplier Part Number 4: 296-24699-6-ND; Output Type: CMOS; Input Type: CMOS; Operating Temperature Range(C): -40 to 125; Rating: Automotive; Code_JEDEC: MS-012; ComponentLink1Description: Manufacturer URL; ComponentLink1URL: http://www.ti.com/; ComponentLink2Description: Datasheet; ComponentLink2URL: http://www.ti.com/lit/ds/symlink/cd4093b-q1.pdf; ComponentLink3Description: Package Specification; ComponentLink3URL: http://www.ti.com/lit/ml/mpds177g/mpds177g.pdf
footprint D0014A_N (SOIC, 14-Leads, Body 8.75x4mm, Pitch 1.27mm, IPC Medium Density)
footprint D0014A_M (SOIC, 14-Leads, Body 8.75x4mm, Pitch 1.27mm, IPC Low Density)
footprint D0014A_L (SOIC, 14-Leads, Body 8.75x4mm, Pitch 1.27mm, IPC High Density)
part A pins: 1 A (in), 2 B (in), 3 J (out)
part B pins: 4 K (out), 5 C (in), 6 D (in)
part C pins: 8 E (in), 9 F (in), 10 L (out)
part D pins: 11 M (out), 12 G (in), 13 H (in)
part E pins: 7 VSS (power), 14 VDD (power)

## CD4093BQM96Q1
designator U?
Automotive Catalog CMOS Quad 2-Input NAND Schmitt Triggers, D0014A, LARGE T&R; Generic Part Number: CD4093B-Q1; Manufacturer: Texas Instruments; PartNumber: CD4093BQM96Q1; VCC(Max)(V): 18; VCC(Min)(V): 3; ICC @ Nom Voltage(Max)(mA): 0.06; Bits(#): 4; F @ Nom Voltage(Max)(Mhz): 8; Technology Family: CD4000; Voltage(Nom)(V): 10; Schmitt Trigger: Yes; Output Drive (IOL/IOH)(Max)(mA): 1.5/-1.5; tpd @ Nom Voltage(Max)(ns): 380; DatasheetVersion: SCLS608A; PackageReference: D0014A; Supplier 1: Mouser; Supplier Part Number 1: 595-CD4093BQM96Q1; Supplier 2: Digi-Key; Supplier Part Number 2: CD4093BQM96Q1-ND; Output Type: CMOS; Input Type: CMOS; Operating Temperature Range(C): -40 to 125; Rating: Automotive; Code_JEDEC: MS-012; ComponentLink1Description: Manufacturer URL; ComponentLink1URL: http://www.ti.com/; ComponentLink2Description: Datasheet; ComponentLink2URL: http://www.ti.com/lit/ds/symlink/cd4093b-q1.pdf; ComponentLink3Description: Package Specification; ComponentLink3URL: http://www.ti.com/lit/ml/mpds177g/mpds177g.pdf
footprint D0014A_N (SOIC, 14-Leads, Body 8.75x4mm, Pitch 1.27mm, IPC Medium Density)
footprint D0014A_M (SOIC, 14-Leads, Body 8.75x4mm, Pitch 1.27mm, IPC Low Density)
footprint D0014A_L (SOIC, 14-Leads, Body 8.75x4mm, Pitch 1.27mm, IPC High Density)
part A pins: 1 A (in), 2 B (in), 3 J (out)
part B pins: 4 K (out), 5 C (in), 6 D (in)
part C pins: 8 E (in), 9 F (in), 10 L (out)
part D pins: 11 M (out), 12 G (in), 13 H (in)
part E pins: 7 VSS (power), 14 VDD (power)

## CD40107BE
designator U?
CMOS Dual 2-Input NAND Buffer/Driver, P0008A, TUBE; Generic Part Number: CD40107B; Manufacturer: Texas Instruments; PartNumber: CD40107BE; VCC(Max)(V): 18; VCC(Min)(V): 3; ICC @ Nom Voltage(Max)(mA): 0.06; Bits(#): 2; F @ Nom Voltage(Max)(Mhz): 8; Rating: Catalog; Technology Family: CD4000; Voltage(Nom)(V): 10; Schmitt Trigger: No; Output Drive (IOL/IOH)(Max)(mA): 0/-85; DatasheetVersion: SCHS098D; PackageReference: P0008A; Supplier 1: Mouser; Supplier Part Number 1: 595-CD40107BE; Supplier 2: Digi-Key; Supplier Part Number 2: 296-3504-5-ND; Output Type: CMOS; Input Type: CMOS; Operating Temperature Range(C): -55 to 125; ComponentLink1Description: Manufacturer URL; ComponentLink1URL: http://www.ti.com/; ComponentLink2Description: Datasheet; ComponentLink2URL: http://www.ti.com/lit/ds/symlink/cd40107b.pdf; ComponentLink3Description: Package Specification; ComponentLink3URL: http://www.ti.com/lit/ml/mpdi001b/mpdi001b.pdf
footprint P0008A (DIP, 8-Leads, Body 10.15x6.6mm, Pitch 2.54mm)
part A pins: 1 A (in), 2 B (in), 3 C (oc)
part B pins: 5 F (oc), 6 E (in), 7 D (in)
part C pins: 4 VSS (power), 8 VDD (power)

## CD40107BF
designator U?
CMOS Dual 2-Input NAND Buffer/Driver, J0014A, TUBE; Generic Part Number: CD40107B-MIL; Manufacturer: Texas Instruments; PartNumber: CD40107BF; VCC(Max)(V): 18; VCC(Min)(V): 3; ICC @ Nom Voltage(Max)(mA): 0.06; Bits(#): 2; F @ Nom Voltage(Max)(Mhz): 8; Rating: Military; Technology Family: CD4000; Voltage(Nom)(V): 10; Schmitt Trigger: No; Output Drive (IOL/IOH)(Max)(mA): 0/-85; DatasheetVersion: SCHS098D; PackageReference: J0014A; Output Type: CMOS; Input Type: CMOS; Operating Temperature Range(C): -55 to 125; ComponentLink1Description: Manufacturer URL; ComponentLink1URL: http://www.ti.com/; ComponentLink2Description: Datasheet; ComponentLink2URL: http://www.ti.com/lit/ds/symlink/cd40107b-mil.pdf; ComponentLink3Description: Package Specification; ComponentLink3URL: http://www.ti.com/lit/ml/mcer002d/mcer002d.pdf
footprint J0014A (DIP, 14-Leads, Body 19.95x7.2mm, Pitch 2.54mm)
part A pins: 3 A (in), 4 B (in), 5 C (oc)
part B pins: 9 F (oc), 10 E (in), 11 D (in)
part C pins: 7 VSS (power), 14 VDD (power)
part D pins: 1 NC, 2 NC, 6 NC, 8 NC, 12 NC, 13 NC

## CD40107BF3A
designator U?
CMOS Dual 2-Input NAND Buffer/Driver, J0014A, TUBE; Generic Part Number: CD40107B-MIL; Manufacturer: Texas Instruments; PartNumber: CD40107BF3A; VCC(Max)(V): 18; VCC(Min)(V): 3; ICC @ Nom Voltage(Max)(mA): 0.06; Bits(#): 2; F @ Nom Voltage(Max)(Mhz): 8; Rating: Military; Technology Family: CD4000; Voltage(Nom)(V): 10; Schmitt Trigger: No; Output Drive (IOL/IOH)(Max)(mA): 0/-85; DatasheetVersion: SCHS098D; PackageReference: J0014A; Output Type: CMOS; Input Type: CMOS; Operating Temperature Range(C): -55 to 125; ComponentLink1Description: Manufacturer URL; ComponentLink1URL: http://www.ti.com/; ComponentLink2Description: Datasheet; ComponentLink2URL: http://www.ti.com/lit/ds/symlink/cd40107b-mil.pdf; ComponentLink3Description: Package Specification; ComponentLink3URL: http://www.ti.com/lit/ml/mcer002d/mcer002d.pdf
footprint J0014A (DIP, 14-Leads, Body 19.95x7.2mm, Pitch 2.54mm)
part A pins: 3 A (in), 4 B (in), 5 C (oc)
part B pins: 9 F (oc), 10 E (in), 11 D (in)
part C pins: 7 VSS (power), 14 VDD (power)
part D pins: 1 NC, 2 NC, 6 NC, 8 NC, 12 NC, 13 NC

## CD40107BM
designator U?
CMOS Dual 2-Input NAND Buffer/Driver, D0008A, TUBE; Generic Part Number: CD40107B; Manufacturer: Texas Instruments; PartNumber: CD40107BM; VCC(Max)(V): 18; VCC(Min)(V): 3; ICC @ Nom Voltage(Max)(mA): 0.06; Bits(#): 2; F @ Nom Voltage(Max)(Mhz): 8; Rating: Catalog; Technology Family: CD4000; Voltage(Nom)(V): 10; Schmitt Trigger: No; Output Drive (IOL/IOH)(Max)(mA): 0/-85; DatasheetVersion: SCHS098D; PackageReference: D0008A; Supplier 1: Mouser; Supplier Part Number 1: 595-CD40107BM; Supplier 2: Digi-Key; Supplier Part Number 2: 296-25937-5-ND; Output Type: CMOS; Input Type: CMOS; Operating Temperature Range(C): -55 to 125; ComponentLink1Description: Manufacturer URL; ComponentLink1URL: http://www.ti.com/; ComponentLink2Description: Datasheet; ComponentLink2URL: http://www.ti.com/lit/ds/symlink/cd40107b.pdf; ComponentLink3Description: Package Specification; ComponentLink3URL: http://www.ti.com/lit/ds/symlink/sn74ls2323.pdf
footprint D0008A_N (SOIC, 8-Leads, Body 5x4mm, Pitch 1.27mm, IPC Medium Density)
footprint D0008A_M (SOIC, 8-Leads, Body 5x4mm, Pitch 1.27mm, IPC Low Density)
footprint D0008A_L (SOIC, 8-Leads, Body 5x4mm, Pitch 1.27mm, IPC High Density)
part A pins: 1 A (in), 2 B (in), 3 C (oc)
part B pins: 5 F (oc), 6 E (in), 7 D (in)
part C pins: 4 VSS (power), 8 VDD (power)

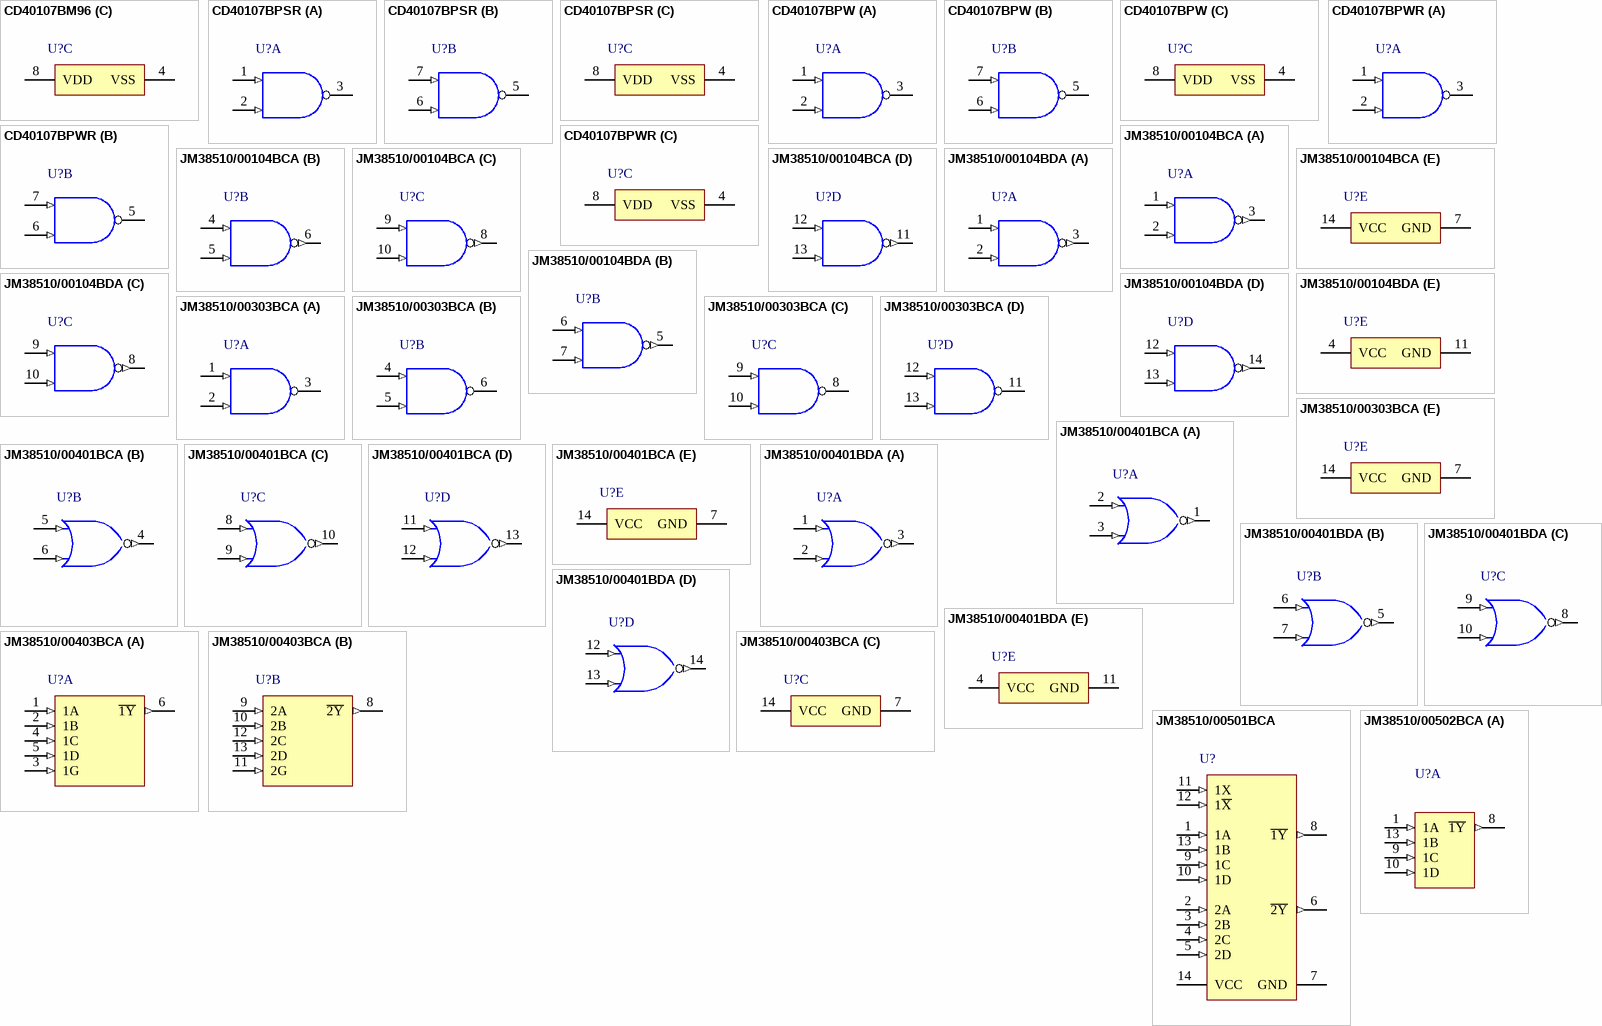
[diagram p50: symbols CD40107BM96 to JM38510/00502BCA]

## CD40107BM96
designator U?
CMOS Dual 2-Input NAND Buffer/Driver, D0008A, LARGE T&R; Generic Part Number: CD40107B; Manufacturer: Texas Instruments; PartNumber: CD40107BM96; VCC(Max)(V): 18; VCC(Min)(V): 3; ICC @ Nom Voltage(Max)(mA): 0.06; Bits(#): 2; F @ Nom Voltage(Max)(Mhz): 8; Rating: Catalog; Technology Family: CD4000; Voltage(Nom)(V): 10; Schmitt Trigger: No; Output Drive (IOL/IOH)(Max)(mA): 0/-85; DatasheetVersion: SCHS098D; PackageReference: D0008A; Supplier 1: Mouser; Supplier Part Number 1: 595-CD40107BM96; Supplier 2: Digi-Key; Supplier Part Number 2: 296-31481-2-ND; Supplier 3: Digi-Key; Supplier Part Number 3: 296-31481-1-ND; Supplier 4: Digi-Key; Supplier Part Number 4: 296-31481-6-ND; Output Type: CMOS; Input Type: CMOS; Operating Temperature Range(C): -55 to 125; ComponentLink1Description: Manufacturer URL; ComponentLink1URL: http://www.ti.com/; ComponentLink2Description: Datasheet; ComponentLink2URL: http://www.ti.com/lit/ds/symlink/cd40107b.pdf; ComponentLink3Description: Package Specification; ComponentLink3URL: http://www.ti.com/lit/ds/symlink/sn74ls2323.pdf
footprint D0008A_N (SOIC, 8-Leads, Body 5x4mm, Pitch 1.27mm, IPC Medium Density)
footprint D0008A_M (SOIC, 8-Leads, Body 5x4mm, Pitch 1.27mm, IPC Low Density)
footprint D0008A_L (SOIC, 8-Leads, Body 5x4mm, Pitch 1.27mm, IPC High Density)
part A pins: 1 A (in), 2 B (in), 3 C (oc)
part B pins: 5 F (oc), 6 E (in), 7 D (in)
part C pins: 4 VSS (power), 8 VDD (power)

## CD40107BPSR
designator U?
CMOS Dual 2-Input NAND Buffer/Driver, PS0008A, LARGE T&R; Generic Part Number: CD40107B; Manufacturer: Texas Instruments; PartNumber: CD40107BPSR; VCC(Max)(V): 18; VCC(Min)(V): 3; ICC @ Nom Voltage(Max)(mA): 0.06; Bits(#): 2; F @ Nom Voltage(Max)(Mhz): 8; Rating: Catalog; Technology Family: CD4000; Voltage(Nom)(V): 10; Schmitt Trigger: No; Output Drive (IOL/IOH)(Max)(mA): 0/-85; DatasheetVersion: SCHS098D; PackageReference: PS0008A; Supplier 1: Mouser; Supplier Part Number 1: 595-CD40107BPSR; Supplier 2: Digi-Key; Supplier Part Number 2: 296-14083-2-ND; Supplier 3: Digi-Key; Supplier Part Number 3: 296-14083-1-ND; Supplier 4: Digi-Key; Supplier Part Number 4: 296-14083-6-ND; Output Type: CMOS; Input Type: CMOS; Operating Temperature Range(C): -55 to 125; ComponentLink1Description: Manufacturer URL; ComponentLink1URL: http://www.ti.com/; ComponentLink2Description: Datasheet; ComponentLink2URL: http://www.ti.com/lit/ds/symlink/cd40107b.pdf; ComponentLink3Description: Package Specification; ComponentLink3URL: http://www.ti.com/lit/ml/msop001a/msop001a.pdf
footprint PS0008A_N (SOP, 8-Leads, Body 6.5x5.6mm, Pitch 1.27mm, IPC Medium Density)
footprint PS0008A_M (SOP, 8-Leads, Body 6.5x5.6mm, Pitch 1.27mm, IPC Low Density)
footprint PS0008A_L (SOP, 8-Leads, Body 6.5x5.6mm, Pitch 1.27mm, IPC High Density)
part A pins: 1 A (in), 2 B (in), 3 C (oc)
part B pins: 5 F (oc), 6 E (in), 7 D (in)
part C pins: 4 VSS (power), 8 VDD (power)

## CD40107BPW
designator U?
CMOS Dual 2-Input NAND Buffer/Driver, PW0008A, TUBE; Generic Part Number: CD40107B; Manufacturer: Texas Instruments; PartNumber: CD40107BPW; VCC(Max)(V): 18; VCC(Min)(V): 3; ICC @ Nom Voltage(Max)(mA): 0.06; Bits(#): 2; F @ Nom Voltage(Max)(Mhz): 8; Rating: Catalog; Technology Family: CD4000; Voltage(Nom)(V): 10; Schmitt Trigger: No; Output Drive (IOL/IOH)(Max)(mA): 0/-85; DatasheetVersion: SCHS098D; PackageReference: PW0008A; Supplier 1: Mouser; Supplier Part Number 1: 595-CD40107BPW; Supplier 2: Digi-Key; Supplier Part Number 2: 296-32858-5-ND; Output Type: CMOS; Input Type: CMOS; Operating Temperature Range(C): -55 to 125; ComponentLink1Description: Manufacturer URL; ComponentLink1URL: http://www.ti.com/; ComponentLink2Description: Datasheet; ComponentLink2URL: http://www.ti.com/lit/ds/symlink/cd40107b.pdf; ComponentLink3Description: Package Specification; ComponentLink3URL: http://www.ti.com/lit/ds/symlink/sn74hcu7204.pdf
footprint PW0008A_N (SOP, 8-Leads, Body 4.5x3.1mm, Pitch 0.65mm, IPC Medium Density)
footprint PW0008A_M (SOP, 8-Leads, Body 4.5x3.1mm, Pitch 0.65mm, IPC Low Density)
footprint PW0008A_L (SOP, 8-Leads, Body 4.5x3.1mm, Pitch 0.65mm, IPC High Density)
part A pins: 1 A (in), 2 B (in), 3 C (oc)
part B pins: 5 F (oc), 6 E (in), 7 D (in)
part C pins: 4 VSS (power), 8 VDD (power)

## CD40107BPWR
designator U?
CMOS Dual 2-Input NAND Buffer/Driver, PW0008A, LARGE T&R; Generic Part Number: CD40107B; Manufacturer: Texas Instruments; PartNumber: CD40107BPWR; VCC(Max)(V): 18; VCC(Min)(V): 3; ICC @ Nom Voltage(Max)(mA): 0.06; Bits(#): 2; F @ Nom Voltage(Max)(Mhz): 8; Rating: Catalog; Technology Family: CD4000; Voltage(Nom)(V): 10; Schmitt Trigger: No; Output Drive (IOL/IOH)(Max)(mA): 0/-85; DatasheetVersion: SCHS098D; PackageReference: PW0008A; Supplier 1: Mouser; Supplier Part Number 1: 595-CD40107BPWR; Supplier 2: Digi-Key; Supplier Part Number 2: CD40107BPWR-ND; Output Type: CMOS; Input Type: CMOS; Operating Temperature Range(C): -55 to 125; ComponentLink1Description: Manufacturer URL; ComponentLink1URL: http://www.ti.com/; ComponentLink2Description: Datasheet; ComponentLink2URL: http://www.ti.com/lit/ds/symlink/cd40107b.pdf; ComponentLink3Description: Package Specification; ComponentLink3URL: http://www.ti.com/lit/ds/symlink/sn74hcu7204.pdf
footprint PW0008A_N (SOP, 8-Leads, Body 4.5x3.1mm, Pitch 0.65mm, IPC Medium Density)
footprint PW0008A_M (SOP, 8-Leads, Body 4.5x3.1mm, Pitch 0.65mm, IPC Low Density)
footprint PW0008A_L (SOP, 8-Leads, Body 4.5x3.1mm, Pitch 0.65mm, IPC High Density)
part A pins: 1 A (in), 2 B (in), 3 C (oc)
part B pins: 5 F (oc), 6 E (in), 7 D (in)
part C pins: 4 VSS (power), 8 VDD (power)

## JM38510/00104BCA
designator U?
Quadruple 2-Input Positive-NAND Gates, J0014A, TUBE; Generic Part Number: SN5400; Manufacturer: Texas Instruments; PartNumber: JM38510/00104BCA; VCC(Min)(V): 4.5; VCC(Max)(V): 5.5; Output Type: TTL; Rating: Military; Schmitt Trigger: No; DatasheetVersion: SDLS025B; PackageReference: J0014A; Input Type: TTL; Operating Temperature Range(C): -55 to 125; Technology Family: TTL; ComponentLink1Description: Manufacturer URL; ComponentLink1URL: http://www.ti.com/; ComponentLink2Description: Datasheet; ComponentLink2URL: http://www.ti.com/lit/ds/symlink/sn5400.pdf; ComponentLink3Description: Package Specification; ComponentLink3URL: http://www.ti.com/lit/ml/mcer002d/mcer002d.pdf
footprint J0014A (DIP, 14-Leads, Body 19.95x7.2mm, Pitch 2.54mm)
part A pins: 1 1A (in) "Gate 1 input", 2 1B (in) "Gate 1 input", 3 1Y (out) "Gate 1 output"
part B pins: 4 2A (in) "Gate 2 input", 5 2B (in) "Gate 2 input", 6 2Y (out) "Gate 2 output"
part C pins: 8 3Y (out) "Gate 3 output", 9 3A (in) "Gate 3 input", 10 3B (in) "Gate 3 input"
part D pins: 11 4Y (out) "Gate 4 output", 12 4A (in) "Gate 4 input", 13 4B (in) "Gate 4 input"
part E pins: 7 GND (power) "Ground Pin", 14 VCC (power) "Power Pin"